# Altium footprint library Collection_Paimin.PcbLib: 48 footprints (part 3 of 3)
Each footprint in its own frame and in the unit in brackets; x right, y up, seen from the top. Pads: shape width x height; smd on the part's side, far side on the other; paste and mask are expansions set on the pad; w line width, h text height; cw(c..) or ccw(c..) is an arc to the next point about the centre after c.
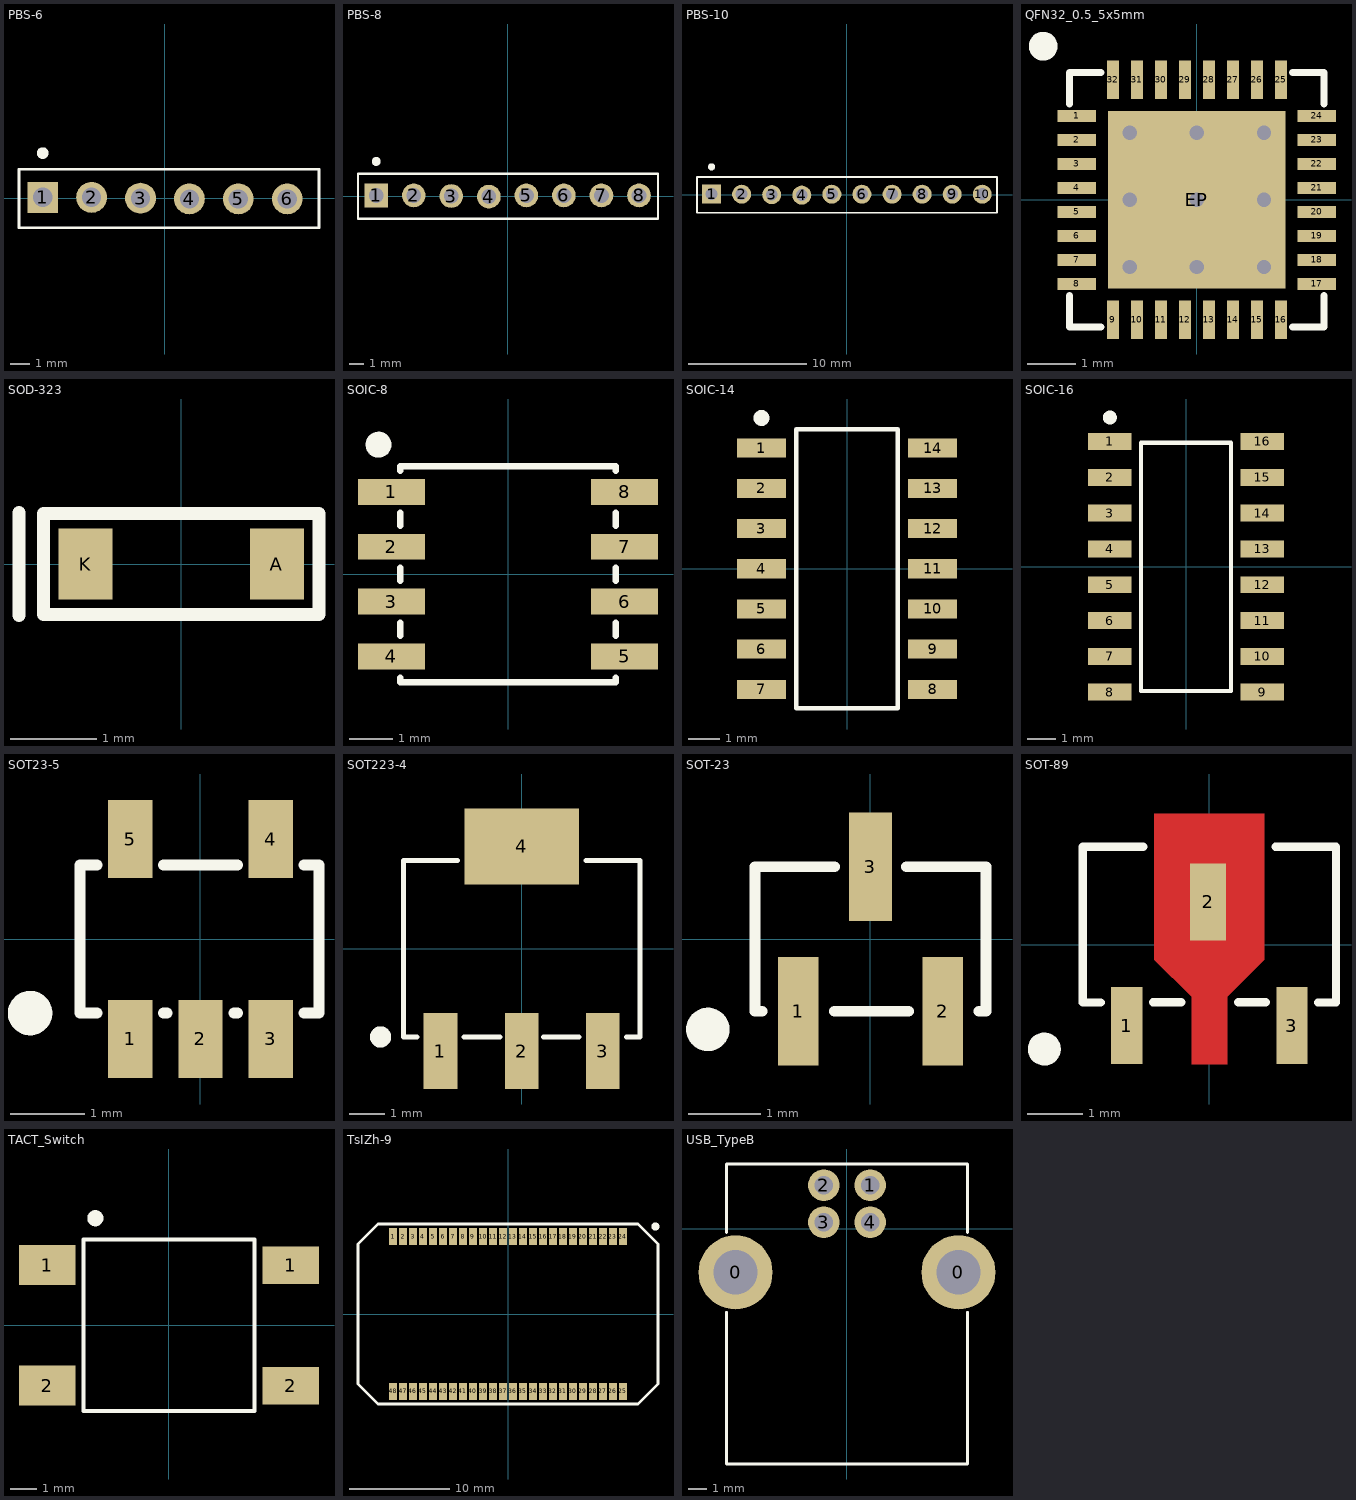
[diagram p2: the footprints below, top view; thin cyan lines are the x and y axes]

## PBS-6 [mm]
height 8
pads (6):
  rect 1.6x1.6 hole 1: 1(-6.35,0.04)
  round 1.6 hole 1: 2(-3.81,0.04) 3(-1.27,0) 4(1.27,-0.04) 5(3.81,-0.04) 6(6.35,-0.04)
Top Overlay:
  circle w0.3: c-6.35,2.34 r0.15
  lines w0.15: -7.58,-1.54 8,-1.54 8,1.5 -7.58,1.5 -7.58,-1.54
3D body "PBS-06.step": height 8.5, standoff -3.1, extent -7.52,-1.24 7.72,1.3

## PBS-8 [mm]
height 8
pads (8):
  rect 1.6x1.6 hole 1: 1(-8.89,0.04)
  round 1.6 hole 1: 2(-6.35,0.04) 3(-3.81,0) 4(-1.27,-0.04) 5(1.27,0.04) 6(3.81,0.04) 7(6.35,0.04) 8(8.89,0.04)
Top Overlay:
  circle w0.3: c-8.89,2.34 r0.15
  lines w0.15: -10.12,-1.54 10.175,-1.54 10.175,1.5 -10.12,1.5 -10.12,-1.54
3D body "PBS-08.step": height 8.5, standoff -3.1, extent -10.16,-1.23 10.16,1.31

## PBS-10 [mm]
height 8
pads (10):
  rect 1.6x1.6 hole 1: 1(-11.43,0.04)
  round 1.6 hole 1: 2(-8.89,0.04) 3(-6.35,0) 4(-3.81,-0.04) 5(-1.27,0.04) 6(1.27,0.04) 7(3.81,0.04) 8(6.35,0.04) 9(8.89,0.04) 10(11.43,0.04)
Top Overlay:
  circle w0.3: c-11.43,2.34 r0.15
  lines w0.15: -12.66,-1.54 12.675,-1.54 12.675,1.5 -12.66,1.5 -12.66,-1.54
3D body "PBS-10.step": height 8.5, standoff -3.1, extent -12.7,-1.23 12.7,1.31

## PCBComponent_1 [mm]

## QFN32_0.5_5x5mm [mm]
pads (33):
  rect 0.8x0.25 smd mask+0.05: 1(-2.5,1.75) 2(-2.5,1.25) 3(-2.5,0.75) 4(-2.5,0.25) 5(-2.5,-0.25) 6(-2.5,-0.75) 7(-2.5,-1.25) 8(-2.5,-1.75) 17(2.5,-1.75) 18(2.5,-1.25) 19(2.5,-0.75) 20(2.5,-0.25) 21(2.5,0.25) 22(2.5,0.75) 23(2.5,1.25) 24(2.5,1.75)
  rect 0.25x0.8 smd mask+0.05: 9(-1.75,-2.5) 10(-1.25,-2.5) 11(-0.75,-2.5) 12(-0.25,-2.5) 13(0.25,-2.5) 14(0.75,-2.5) 15(1.25,-2.5) 16(1.75,-2.5) 25(1.75,2.5) 26(1.25,2.5) 27(0.75,2.5) 28(0.25,2.5) 29(-0.25,2.5) 30(-0.75,2.5) 31(-1.25,2.5) 32(-1.75,2.5)
  rect 3.7x3.7 smd mask+0.05: EP(0,0)
via 1.4,1.4 diameter 0.7 hole 0.3
via -1.4,1.4 diameter 0.7 hole 0.3
via -1.4,-1.4 diameter 0.7 hole 0.3
via 1.4,-1.4 diameter 0.7 hole 0.3
via 0,-1.4 diameter 0.7 hole 0.3
via -1.4,0 diameter 0.7 hole 0.3
via 1.4,0 diameter 0.7 hole 0.3
via 0,1.4 diameter 0.7 hole 0.3
via 0,0 diameter 0.7 hole 0.3
Top Overlay:
  circle w0.3: c-3.2,3.2 r0.15
  lines w0.15: -2.65,-2 -2.65,-2.65 -2,-2.65 ; -2.65,2 -2.65,2.65 -2,2.65 ; 2,-2.65 2.65,-2.65 2.65,-2 ; 2,2.65 2.65,2.65 2.65,2
3D body "QFN32_0.5_5x5mm.step": height 0.9, standoff -0.03, extent -2.5,-2.5 2.501,2.5

## SOD-323 [mm]
height 0.9
pads (2):
  rect 0.63x0.83 smd: A(1.115,0) K(-1.115,0)
Top Overlay:
  lines w0.15: -1.89,-0.6 -1.89,0.6 ; -1.605,-0.59 1.605,-0.59 1.605,0.59 -1.605,0.59 -1.605,-0.59
3D body "SOD-323.step": height 0.98, standoff -0.01, extent -1.25,-0.625 1.25,0.625

## SOIC-8 [mm]
height 1.75
pads (8):
  rect 1.55x0.6 smd mask+0.07: 1(-2.7,1.905) 2(-2.7,0.635) 3(-2.7,-0.635) 4(-2.7,-1.905) 5(2.7,-1.905) 6(2.7,-0.635) 7(2.7,0.635) 8(2.7,1.905)
Top Overlay:
  circle w0.3: c-3,3 r0.15
  lines w0.15: -2.5,-2.4 -2.5,-2.5 2.5,-2.5 2.5,-2.4 ; -2.5,-1.425 -2.5,-1.125 ; -2.5,-0.15 -2.5,0.15 ; -2.5,1.125 -2.5,1.425 ; -2.5,2.4 -2.5,2.5 2.5,2.5 2.5,2.4 ; 2.5,-1.425 2.5,-1.125 ; 2.5,-0.15 2.5,0.15 ; 2.5,1.125 2.5,1.425
3D body "SOIC-8.step": height 1.75, standoff 0, extent -3,-2.45 3,2.45

## SOIC-14 [mm] "SOIC, 14-Leads, Body 8,65x3,90mm, Pitch 1,27mm, IPC Medium Density"
height 1.75
pads (14):
  rect 1.55x0.6 smd mask+0.07: 1(-2.7,3.81) 2(-2.7,2.54) 3(-2.7,1.27) 4(-2.7,0) 5(-2.7,-1.27) 6(-2.7,-2.54) 7(-2.7,-3.81) 8(2.7,-3.81) 9(2.7,-2.54) 10(2.7,-1.27) 11(2.7,0) 12(2.7,1.27) 13(2.7,2.54) 14(2.7,3.81)
Top Overlay:
  circle w0.25: c-2.7,4.76 r0.125
  lines w0.15: -1.6,-4.4 -1.6,4.4 1.6,4.4 1.6,-4.4 -1.6,-4.4
3D body "SO14 Narrow  3.9mm.step": height 1.35, standoff 0, extent -2.99,-4.325 2.99,4.325

## SOIC-16 [mm] "SOIC, 16-Leads, Body 8,65x3,90mm, Pitch 1,27mm, IPC Medium Density"
height 1.75
pads (16):
  rect 1.55x0.6 smd mask+0.07: 1(-2.7,4.445) 2(-2.7,3.175) 3(-2.7,1.905) 4(-2.7,0.635) 5(-2.7,-0.635) 6(-2.7,-1.905) 7(-2.7,-3.175) 8(-2.7,-4.445) 9(2.7,-4.445) 10(2.7,-3.175) 11(2.7,-1.905) 12(2.7,-0.635) 13(2.7,0.635) 14(2.7,1.905) 15(2.7,3.175) 16(2.7,4.445)
Top Overlay:
  circle w0.25: c-2.7,5.295 r0.125
  lines w0.15: -1.6,-4.4 1.6,-4.4 1.6,4.4 -1.6,4.4 -1.6,-4.4
3D body "SO16 Narrow 3.9mm.step": height 1.35, standoff 0, extent -2.99,-4.95 2.99,4.95

## SOT23-5 [mm]
height 1.45
pads (5):
  rect 0.6x1.05 smd mask+0.07: 1(-0.95,-1.35) 2(0,-1.35) 3(0.95,-1.35) 4(0.95,1.35) 5(-0.95,1.35)
Top Overlay:
  circle w0.3: c-2.3,-1 r0.15
  lines w0.15: -1.4,-1 -1.625,-1 -1.625,1 -1.4,1 ; -0.5,-1 -0.45,-1 ; -0.5,1 0.5,1 ; 0.45,-1 0.5,-1 ; 1.4,-1 1.6,-1 1.6,1 1.4,1
3D body "SOT23-5.step": height 1.1, standoff 0, extent -1.5,-1.25 1.5,1.25

## SOT223-4 [mm]
pads (4):
  rect 0.95x2.15 smd: 1(-2.3,-2.9) 3(2.3,-2.9)
  rect 0.95x2.15 smd mask+0.07: 2(0,-2.9)
  rect 3.25x2.15 smd: 4(0,2.9)
Top Overlay:
  circle w0.3: c-4,-2.5 r0.15
  lines w0.15: -2.975,-2.5 -3.35,-2.5 -3.35,2.5 -1.825,2.5 ; -1.625,-2.5 -0.625,-2.5 ; 0.625,-2.5 1.625,-2.5 ; 1.825,2.5 3.35,2.5 3.35,-2.5 2.975,-2.5
3D body "SOT223-4.step": height 1.69, standoff 0.04, extent -3.25,-3.5 3.25,3.5

## SOT-23 [mm]
height 1.1
pads (3):
  rect 0.56x1.5 smd: 1(-1,-1) 2(1,-1)
  rect 0.6x1.5 smd: 3(0,1)
Top Overlay:
  circle w0.3: c-2.25,-1.25 r0.15
  lines w0.15: -1.5,-1 -1.6,-1 -1.6,1 -0.5,1 ; -0.5,-1 0.525,-1 ; 0.5,1 1.6,1 1.6,-0.7 ; 1.5,-1 1.6,-1 1.6,0.7
3D body "SOT-23.step": height 1.1, standoff 0, extent -1.5,-1.25 1.5,1.25

## SOT-89 [mm]
height 1.6
pads (3):
  rect 0.57x1.4 smd: 1(-1.5,-1.475) 3(1.5,-1.475)
  rect 0.65x1.4 smd mask+0: 2(-0.025,0.775)
Top Layer:
  region: -1,2.375 1,2.375 1,-0.275 0.325,-0.95 0.325,-2.175 -0.325,-2.175 -0.325,-0.95 -1,-0.275
Top Overlay:
  circle w0.3: c-3,-1.9 r0.15
  lines w0.15: -1.975,-1.055 -2.3,-1.055 -2.3,1.774 -1.2,1.774 ; -1.025,-1.05 -0.513,-1.047 ; 0.525,-1.05 1.025,-1.05 ; 1.2,1.777 2.3,1.777 2.3,-1.053 1.975,-1.053
3D body "SOT-89.step": height 1.35, standoff 0, extent -2.3,-2.125 2.3,2.125

## TACT_Switch [mm]
height 4
pads (4):
  rect 2.1x1.5 smd: 1(-4.55,2.25) 2(-4.55,-2.25)
  rect 2.1x1.4 smd: 1(4.55,2.25) 2(4.55,-2.25)
Top Overlay:
  circle w0.3: c-2.75,4 r0.15
  lines w0.15: -3.2,-3.2 -3.2,3.2 3.2,3.2 3.2,-3.2 -3.2,-3.2
3D body "Button_TE Connectivity 2-1437565-7.stp": height 4.41, standoff 0.02, extent -5,-3 5,3

## TsIZh-9 [mm] "ЦИЖ-9"
height 2.15
pads (48):
  rect 0.8x1.7 smd mask+0.02: 1(-11.5,7.75) 2(-10.5,7.75) 3(-9.5,7.75) 4(-8.5,7.75) 5(-7.5,7.75) 6(-6.5,7.75) 7(-5.5,7.75) 8(-4.5,7.75) 9(-3.5,7.75) 10(-2.5,7.75) 11(-1.5,7.75) 12(-0.5,7.75) 13(0.5,7.75) 14(1.5,7.75) 15(2.5,7.75) 16(3.5,7.75) 17(4.5,7.75) 18(5.5,7.75) 19(6.5,7.75) 20(7.5,7.75) 21(8.5,7.75) 22(9.5,7.75) 23(10.5,7.75) 24(11.5,7.75) 25(11.5,-7.75) 26(10.5,-7.75) 27(9.5,-7.75) 28(8.5,-7.75) 29(7.5,-7.75) 30(6.5,-7.75) 31(5.5,-7.75) 32(4.5,-7.75) 33(3.5,-7.75) 34(2.5,-7.75) 35(1.5,-7.75) 36(0.5,-7.75) 37(-0.5,-7.75) 38(-1.5,-7.75) 39(-2.5,-7.75) 40(-3.5,-7.75) 41(-4.5,-7.75) 42(-5.5,-7.75) 43(-6.5,-7.75) 44(-7.5,-7.75) 45(-8.5,-7.75) 46(-9.5,-7.75) 47(-10.5,-7.75) 48(-11.5,-7.75)
Top Overlay:
  circle w0.4: c14.75,8.75 r0.2
  lines w0.254: -15,-7 -13,-9 13,-9 15,-7 15,7 13,9 -13,9 -15,7 -15,-7
3D body "tsizh-9.stp": height 2.15, standoff 0, extent -14.25,-9 14.25,9

## USB_TypeB [mm]
height 11.1
pads (6):
  round 4 hole 2.4: 0(-6.02,-2.355) 0(6.02,-2.355)
  round 1.7 hole 1: 1(1.25,2.355) 2(-1.25,2.355) 3(-1.25,0.355) 4(1.25,0.355)
Top Overlay:
  lines w0.15: -6.5,-4.5 -6.5,-12.7 6.5,-12.7 6.5,-4.5 ; -6.5,-0.2 -6.5,3.5 6.5,3.5 6.5,-0.2
3D body "USB-B TE Connectivity 292304-1.stp": height 11.8, standoff -3.62, extent -7.195,-12.7 7.195,3